# EAGLE library part POLOLU-AMIS-30543-ALLPADS/ALLHOLES (library Pololu-AMIS-30543)
This variant contains all the pads/holes. Pololu AMIS-30543 Stepper Driver Carrier . Product Page : https://www.pololu.com/product/2970 . AMIS 30543 Datasheet https://www.pololu.com/file/download/AMIS-30543-D.pdf?file_id=0J869
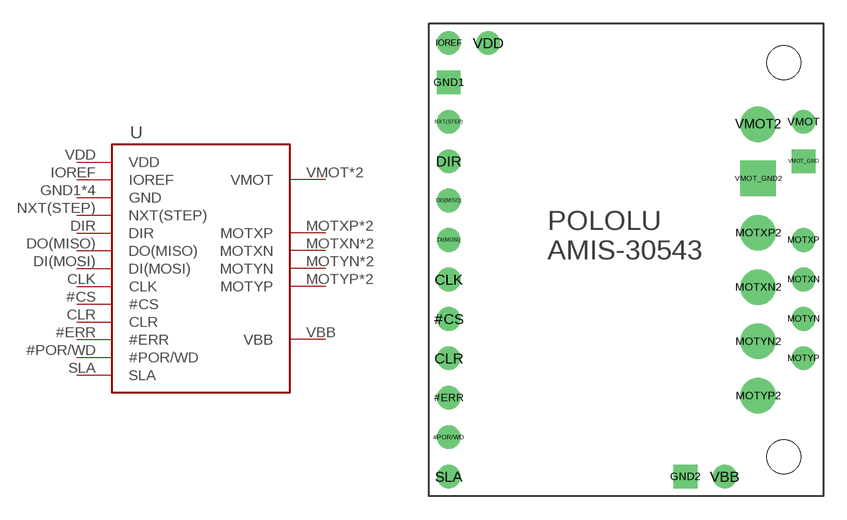
[diagram p0: symbol with the pads of POLOLU-AMIS-30543-ALLPADS/ALLHOLES; footprint POLOLU-AMIS-30543-ALLPADS/ALLHOLES]

Designator prefix -

## POLOLU-AMIS-30543-ALLPADS/ALLHOLES  [POLOLU-AMIS-30543-ALLPADS/ALLHOLES]
#CS  #CS
#ERR  #ERR
#POR/WD  #POR/WD
CLK  CLK
CLR  CLR
DI(MOSI)  DI(MOSI)
DIR  DIR
DO(MISO)  DO(MISO)
GND1  GND
GND2  GND
IOREF  IOREF
MOTXN  MOTXN
MOTXN2  MOTXN
MOTXP  MOTXP
MOTXP2  MOTXP
MOTYN  MOTYN
MOTYN2  MOTYN
MOTYP  MOTYP
MOTYP2  MOTYP
NXT(STEP)  NXT(STEP)
SLA  SLA
VBB  VBB
VDD  VDD
VMOT  VMOT
VMOT2  VMOT
VMOT_GND  GND
VMOT_GND2  GND

## Footprint POLOLU-AMIS-30543-ALLPADS/ALLHOLES (pad centres in mm)
This variant contains all the pads/holes. Pololu AMIS-30543 Stepper Driver Carrier . Product Page : https://www.pololu.com/product/2970 . AMIS 30543 Datasheet https://www.pololu.com/file/download/AMIS-30543-D.pdf?file_id=0J869
drill 1.016: #CS -11.43,-3.81; #ERR -11.43,-8.89; #POR/WD -11.43,-11.43; CLK -11.43,-1.27; CLR -11.43,-6.35; DI(MOSI) -11.43,1.27; DIR -11.43,6.35; DO(MISO) -11.43,3.81; IOREF -11.43,13.97; MOTXN 11.43,-1.27; MOTXP 11.43,1.27; MOTYN 11.43,-3.81; MOTYP 11.43,-6.35; NXT(STEP) -11.43,8.89; SLA -11.43,-13.97; VBB 6.35,-13.97; VDD -8.89,13.97; VMOT 11.43,8.89
drill 1.016 square: GND1 -11.43,11.43; GND2 3.81,-13.97; VMOT_GND 11.43,6.35
drill 1.524: MOTXN2 8.509,-1.763; MOTXP2 8.509,1.737; MOTYN2 8.509,-5.263; MOTYP2 8.509,-8.763; VMOT2 8.509,8.738
drill 1.524 square: VMOT_GND2 8.509,5.237
hole 2.184 at 10.16,12.7
hole 2.184 at 10.16,-12.7